# Altium footprint library Chip_FerriteBead_M.PcbLib: 4 footprints
Each footprint in its own frame and in the unit in brackets; x right, y up, seen from the top. Pads: shape width x height; smd on the part's side, far side on the other; paste and mask are expansions set on the pad; w line width, h text height; cw(c..) or ccw(c..) is an arc to the next point about the centre after c.
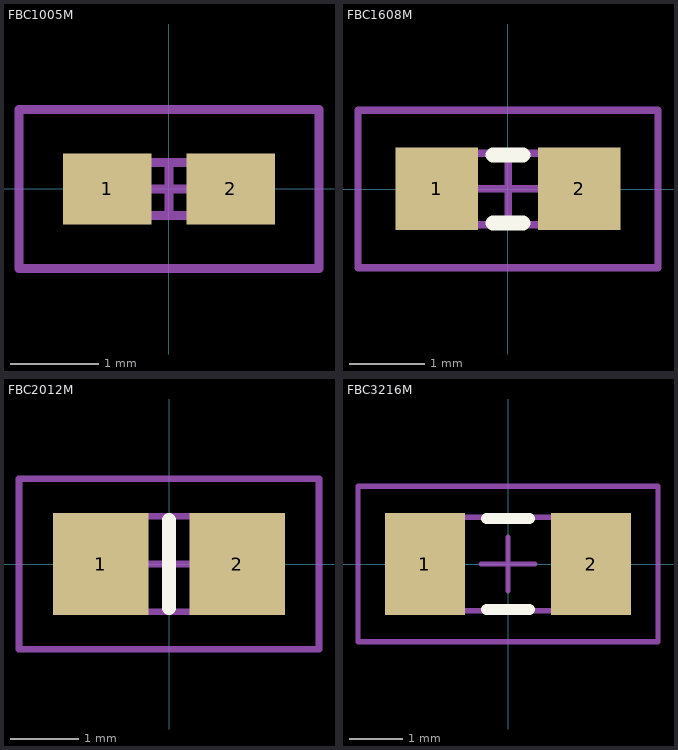
[diagram p0: the footprints below, top view; thin cyan lines are the x and y axes]

## FBC1005M [mm] "Chip Ferrite Bead, Body 1.1x0.5mm, IPC Low Density"
height 0.4
pads (2):
  rect 1x0.8 smd: 1(-0.7,0) 2(0.7,0)
Mechanical 13:
  lines w0.1: -0.55,-0.3 0.55,-0.3 0.55,0.3 -0.55,0.3 -0.55,-0.3
Mechanical 15:
  lines w0.1: -0.3,0 0.3,0 ; 0,-0.3 0,0.3 ; -1.7,-0.9 1.7,-0.9 1.7,0.9 -1.7,0.9 -1.7,-0.9
3D body: height 0.4, standoff 0, extent -0.55,-0.3 0.55,0.3

## FBC1608M [mm] "Chip Ferrite Bead, Body 1.6x0.8mm, IPC Low Density"
height 0.6
pads (2):
  rect 1.1x1.1 smd: 1(-0.95,0) 2(0.95,0)
Top Overlay:
  lines w0.2: -0.2,-0.45 0.2,-0.45 ; -0.2,0.45 0.2,0.45
Mechanical 13:
  lines w0.1: -0.85,-0.475 0.85,-0.475 0.85,0.475 -0.85,0.475 -0.85,-0.475
Mechanical 15:
  lines w0.1: -0.475,0 0.475,0 ; 0,-0.475 0,0.475 ; -2,-1.05 2,-1.05 2,1.05 -2,1.05 -2,-1.05
3D body: height 0.6, standoff 0, extent -0.85,-0.475 0.85,0.475

## FBC2012M [mm] "Chip Ferrite Bead, Body 2.0x1.3mm, IPC Low Density"
height 0.65
pads (2):
  rect 1.4x1.5 smd: 1(-1,0) 2(1,0)
Top Overlay:
  lines w0.2: 0,-0.65 0,0.65
Mechanical 13:
  lines w0.1: -1.075,-0.7 -1.075,0.7 1.075,0.7 1.075,-0.7 -1.075,-0.7
Mechanical 15:
  lines w0.1: -0.5,0 0.5,0 ; 0,-0.5 0,0.5 ; -2.2,-1.25 -2.2,1.25 2.2,1.25 2.2,-1.25 -2.2,-1.25
3D body: height 0.65, standoff 0, extent -1.075,-0.7 1.075,0.7

## FBC3216M [mm] "Chip Ferrite Bead, Body 3.2x1.6mm, IPC Low Density"
height 0.71
pads (2):
  rect 1.5x1.9 smd: 1(-1.55,0) 2(1.55,0)
Top Overlay:
  lines w0.2: -0.4,-0.85 0.4,-0.85 ; -0.4,0.85 0.4,0.85
Mechanical 13:
  lines w0.1: -1.675,-0.875 1.675,-0.875 1.675,0.875 -1.675,0.875 -1.675,-0.875
Mechanical 15:
  lines w0.1: -0.5,0 0.5,0 ; 0,-0.5 0,0.5 ; -2.8,-1.45 2.8,-1.45 2.8,1.45 -2.8,1.45 -2.8,-1.45
3D body: height 0.71, standoff 0, extent -1.675,-0.875 1.675,0.875